# Altium schematic symbol library SCH - OPAMP - TI OPA2380.SCHLIB: 1 symbol
Pins are listed as number, name and electrical type; pins without a type are passive.

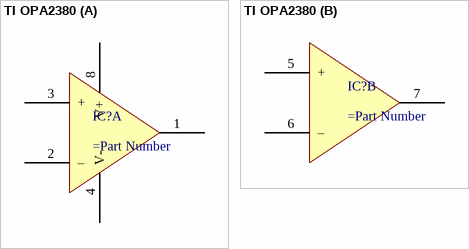
[diagram p0: symbol TI OPA2380]

## TI OPA2380
designator IC?
Dual 90MHz, 80V/us, Transimpedance amp
part A pins: 1 OUT, 2 –, 3 +, 4 V-, 8 V+
part B pins: 5 +, 6 –, 7 OUT